# EAGLE library part 63HEADPHONE (library ioshub)
6.3 Headphone female jack
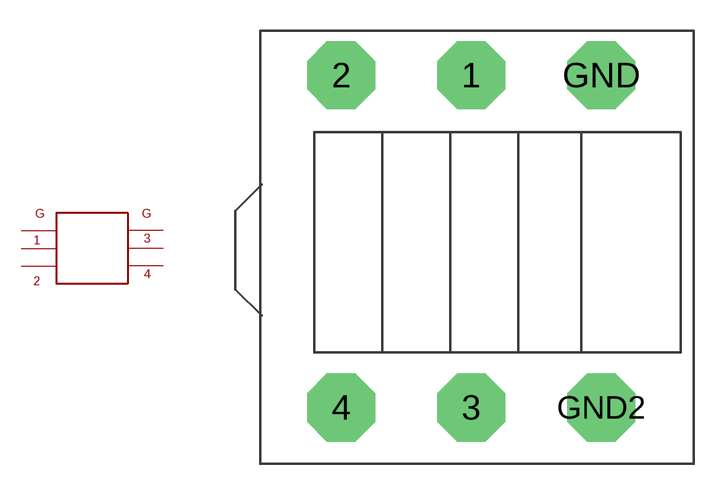
[diagram p13: symbol with the pads of 63HEADPHONE; footprint 63HEADPHONE]

Designator prefix -

## 63HEADPHONECON63FEMALEJACK  [63HEADPHONE]
1  1
2  2
3  3
4  4
GND  GND
GND2  GND2

## Footprint 63HEADPHONE (pad centres in mm)
6.3mm Headphone Jack female
drill 2 pad 3.302 octagon: 1 -1.27,7.85; 2 -7.58,7.85; 3 -1.27,-8.27; 4 -7.58,-8.27; GND 5.032,7.85; GND2 5.032,-8.27